# EAGLE library part CDCLVC1103 (library cdclvc11xx_10)
CDCLVC1103 3.3V and 2.5V LVCMOS High-Performance Clock Buffer - 1:3 Fan-out Source: http://www.ti.com/lit/ds/symlink/cdclvc1103.pdf
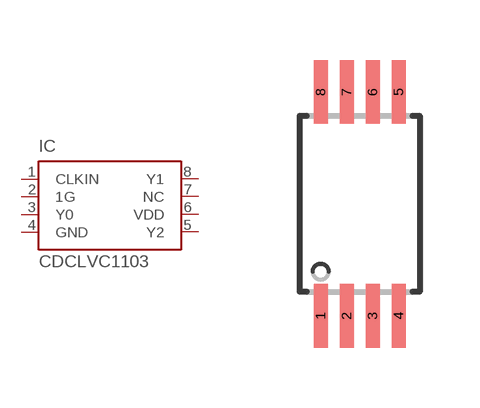
[diagram p1: symbol with the pads of TSSOP8; footprint TSSOP8]

Designator prefix IC

## CDCLVC1103PW (MF: Texas Instruments; MPN: CDCLVC1103; OC_FARNELL: unknown; OC_NEWARK: 79R7908)  [TSSOP8]
1  CLKIN  in
2  1G  in
3  Y0  out
4  GND  pwr
5  Y2  out
6  VDD  pwr
7  NC  nc
8  Y1  out

## Footprint TSSOP8 (pad centres in mm)
TSSOP-8 Plastic Thin Srink Small Outline (PW) Source: http://www.ti.com/lit/ds/symlink/cdclvc1102.pdf
smd 0.35 x 1.6: 1 -0.975,-2.8; 2 -0.325,-2.8; 3 0.325,-2.8; 4 0.975,-2.8; 5 0.975,2.8; 6 0.325,2.8; 7 -0.325,2.8; 8 -0.975,2.8